# Altium schematic symbol library GRM21BR61E106KA73L.SchLib: 1 symbol
Pins are listed as number, name and electrical type; pins without a type are passive.

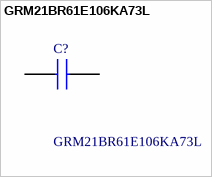
[diagram p0: symbol GRM21BR61E106KA73L]

## GRM21BR61E106KA73L
designator C?
Ceramic Capacitors MLCC 0805 10uF 25V Murata 0805 GRM 10uF Ceramic Multilayer Capacitor, 25 V dc, +85C, X5R Dielectric, +/-10% SMD; Manufacturer_Name: Murata Electronics; Geometry.Height: 1.45mm; Mouser Part Number: 81-GRM21BR61E106KA3L; Mouser Price/Stock: https://www.mouser.co.uk/ProductDetail/Murata-Electronics/GRM21BR61E106KA73L?qs=Uw8ySfEHS7LOsCQEzvRcNg%3D%3D; Manufacturer_Part_Number: GRM21BR61E106KA73L; Datasheet Link: http://www.murata.com/~/media/webrenewal/support/library/catalog/products/capacitor/mlcc/c02e.pdf
footprint CAPC2012X145N
pins: 1, 2